# Altium footprint library EE310_example.PcbLib: 1 footprints
Each footprint in its own frame and in the unit in brackets; x right, y up, seen from the top. Pads: shape width x height; smd on the part's side, far side on the other; paste and mask are expansions set on the pad; w line width, h text height; cw(c..) or ccw(c..) is an arc to the next point about the centre after c.
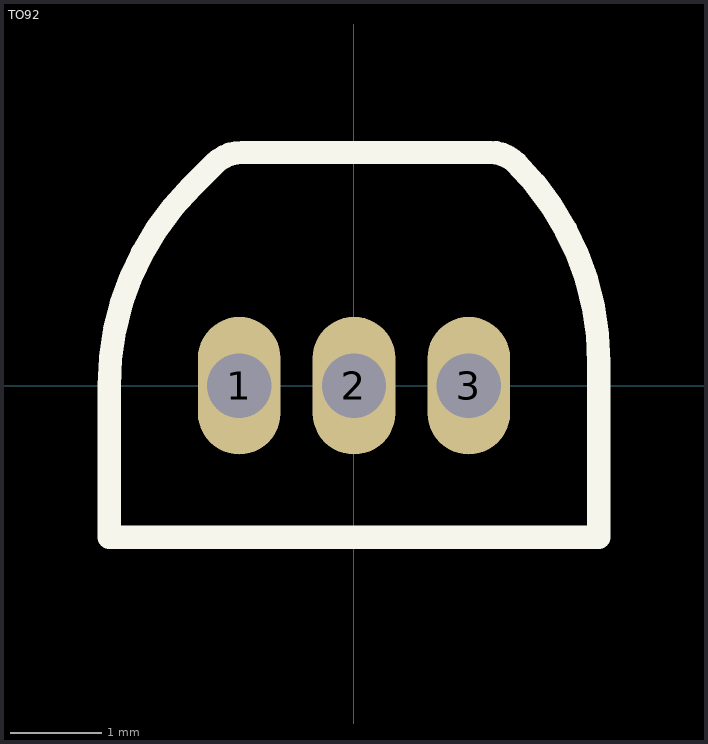
[diagram p0: the footprint, top view; thin cyan lines are the x and y axes]

## TO92 [mm]
pads (3):
  oval 0.9x1.5 hole 0.7: 1(-1.25,0) 2(0,0) 3(1.25,0)
Top Overlay:
  lines w0.254: -2.667,-1.651 2.667,-1.651 2.667,0.254 ccw(c-0.399,0.254) 1.769,2.422 ccw(c1.484,2.137) 1.484,2.54 -1.217,2.54 ccw(c-1.217,2.106) -1.524,2.413 -1.769,2.168 ccw(c0.399,0) -2.667,0 -2.667,-1.651
3D body "User Library-TO-92_Str.STEP": height 10, standoff -3, extent -2.613,-1.59 2.613,2.613